# Altium schematic symbol library Microcontrollers.SchLib: 4 symbols
Pins are listed as number, name and electrical type; pins without a type are passive.

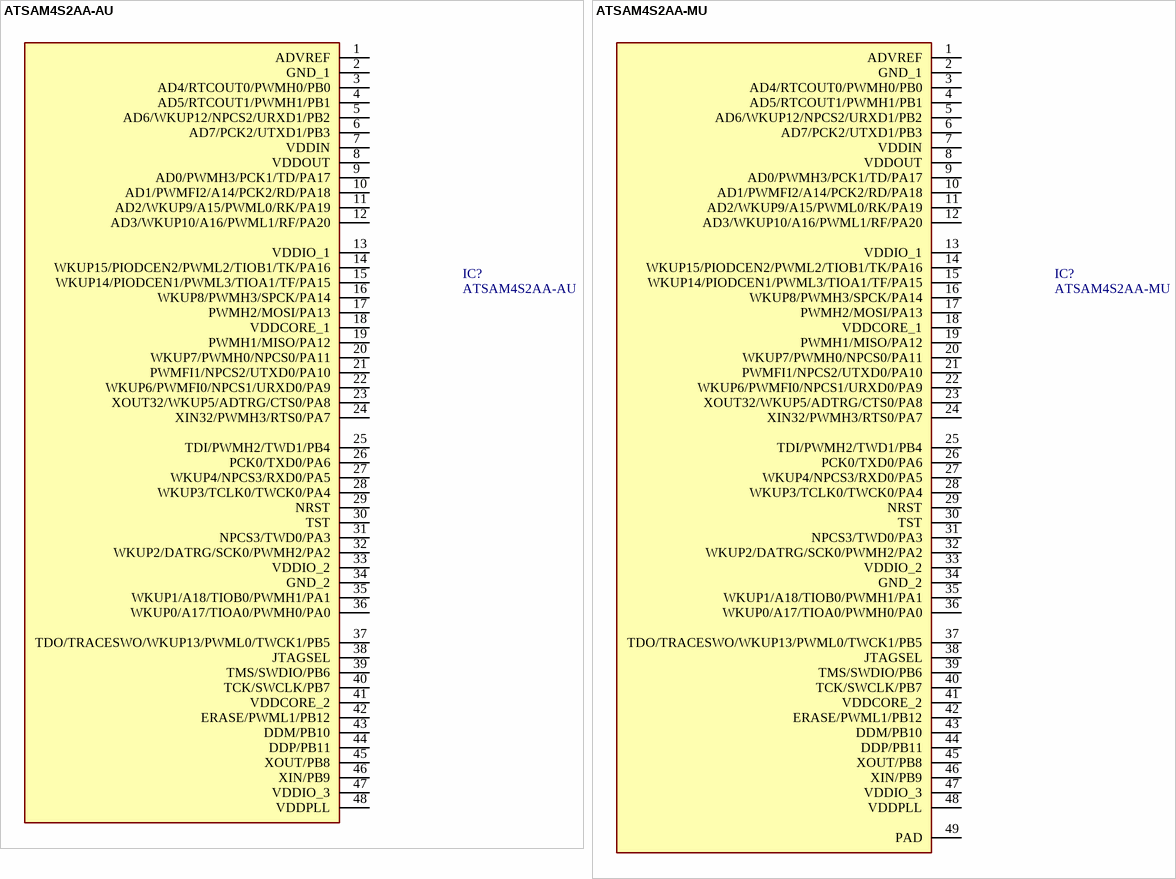
[diagram p0: symbols ATSAM4S2AA-AU to ATSAM4S2AA-MU]

## ATSAM4S2AA-AU
designator IC?
MCU 32-Bit SAM4S ARM Cortex M4 RISC 128KB Flash 1.2V/3.3V 48-Pin QFN; Manufacturer_Name: Microchip; Datasheet Link: http://www.atmel.com/Images/Atmel-11100-32-bit%20Cortex-M4-Microcontroller-SAM4S_Datasheet.pdf; Height: 1.6mm; Manufacturer_Part_Number: ATSAM4S2AA-AU; Arrow Part Number: ATSAM4S2AA-AU; Arrow Price/Stock: https://www.arrow.com/en/products/atsam4s2aa-au/microchip-technology; Mouser Part Number: 556-ATSAM4S2AA-AU; Mouser Price/Stock: https://www.mouser.co.uk/ProductDetail/Microchip-Technology-Atmel/ATSAM4S2AA-AU?qs=HVbQlW5zcXVDYXWYpGOOEg%3D%3D
footprint TSQFP50P900X900X160-48M (TSQFP, 48-Leads, Body 7.00x7.00mm, Pitch 0.50mm, IPC Low Density)
pins: 1 ADVREF, 2 GND_1, 3 AD4/RTCOUT0/PWMH0/PB0, 4 AD5/RTCOUT1/PWMH1/PB1, 5 AD6/WKUP12/NPCS2/URXD1/PB2, 6 AD7/PCK2/UTXD1/PB3, 7 VDDIN, 8 VDDOUT, 9 AD0/PWMH3/PCK1/TD/PA17, 10 AD1/PWMFI2/A14/PCK2/RD/PA18, 11 AD2/WKUP9/A15/PWML0/RK/PA19, 12 AD3/WKUP10/A16/PWML1/RF/PA20, 13 VDDIO_1, 14 WKUP15/PIODCEN2/PWML2/TIOB1/TK/PA16, 15 WKUP14/PIODCEN1/PWML3/TIOA1/TF/PA15, 16 WKUP8/PWMH3/SPCK/PA14, 17 PWMH2/MOSI/PA13, 18 VDDCORE_1, 19 PWMH1/MISO/PA12, 20 WKUP7/PWMH0/NPCS0/PA11, 21 PWMFI1/NPCS2/UTXD0/PA10, 22 WKUP6/PWMFI0/NPCS1/URXD0/PA9, 23 XOUT32/WKUP5/ADTRG/CTS0/PA8, 24 XIN32/PWMH3/RTS0/PA7, 25 TDI/PWMH2/TWD1/PB4, 26 PCK0/TXD0/PA6, 27 WKUP4/NPCS3/RXD0/PA5, 28 WKUP3/TCLK0/TWCK0/PA4, 29 NRST, 30 TST, 31 NPCS3/TWD0/PA3, 32 WKUP2/DATRG/SCK0/PWMH2/PA2, 33 VDDIO_2, 34 GND_2, 35 WKUP1/A18/TIOB0/PWMH1/PA1, 36 WKUP0/A17/TIOA0/PWMH0/PA0, 37 TDO/TRACESWO/WKUP13/PWML0/TWCK1/PB5, 38 JTAGSEL, 39 TMS/SWDIO/PB6, 40 TCK/SWCLK/PB7, 41 VDDCORE_2, 42 ERASE/PWML1/PB12, 43 DDM/PB10, 44 DDP/PB11, 45 XOUT/PB8, 46 XIN/PB9, 47 VDDIO_3, 48 VDDPLL

## ATSAM4S2AA-MU
designator IC?
MCU 32-Bit SAM4S ARM Cortex M4 RISC 128KB Flash 1.2V/3.3V 48-Pin QFN; Manufacturer_Name: Microchip; Manufacturer_Part_Number: ATSAM4S2AA-AU; Datasheet Link: http://www.atmel.com/Images/Atmel-11100-32-bit%20Cortex-M4-Microcontroller-SAM4S_Datasheet.pdf; Height: 1.6mm; Arrow Part Number: ATSAM4S2AA-AU; Arrow Price/Stock: https://www.arrow.com/en/products/atsam4s2aa-au/microchip-technology; Mouser Part Number: 556-ATSAM4S2AA-AU; Mouser Price/Stock: https://www.mouser.co.uk/ProductDetail/Microchip-Technology-Atmel/ATSAM4S2AA-AU?qs=HVbQlW5zcXVDYXWYpGOOEg%3D%3D
footprint Atmel_QFN48_L (QFN, 48-Leads, Body 7x7mm, Pitch 0.5mm, Thermal Pad 5.8x5.8mm, IPC High Density)
footprint Atmel_QFN48_M (QFN, 48-Leads, Body 7x7mm, Pitch 0.5mm, Thermal Pad 5.8x5.8mm, IPC Low Density)
footprint Atmel_QFN48_N (QFN, 48-Leads, Body 7x7mm, Pitch 0.5mm, Thermal Pad 5.8x5.8mm, IPC Medium Density)
pins: 1 ADVREF, 2 GND_1, 3 AD4/RTCOUT0/PWMH0/PB0, 4 AD5/RTCOUT1/PWMH1/PB1, 5 AD6/WKUP12/NPCS2/URXD1/PB2, 6 AD7/PCK2/UTXD1/PB3, 7 VDDIN, 8 VDDOUT, 9 AD0/PWMH3/PCK1/TD/PA17, 10 AD1/PWMFI2/A14/PCK2/RD/PA18, 11 AD2/WKUP9/A15/PWML0/RK/PA19, 12 AD3/WKUP10/A16/PWML1/RF/PA20, 13 VDDIO_1, 14 WKUP15/PIODCEN2/PWML2/TIOB1/TK/PA16, 15 WKUP14/PIODCEN1/PWML3/TIOA1/TF/PA15, 16 WKUP8/PWMH3/SPCK/PA14, 17 PWMH2/MOSI/PA13, 18 VDDCORE_1, 19 PWMH1/MISO/PA12, 20 WKUP7/PWMH0/NPCS0/PA11, 21 PWMFI1/NPCS2/UTXD0/PA10, 22 WKUP6/PWMFI0/NPCS1/URXD0/PA9, 23 XOUT32/WKUP5/ADTRG/CTS0/PA8, 24 XIN32/PWMH3/RTS0/PA7, 25 TDI/PWMH2/TWD1/PB4, 26 PCK0/TXD0/PA6, 27 WKUP4/NPCS3/RXD0/PA5, 28 WKUP3/TCLK0/TWCK0/PA4, 29 NRST, 30 TST, 31 NPCS3/TWD0/PA3, 32 WKUP2/DATRG/SCK0/PWMH2/PA2, 33 VDDIO_2, 34 GND_2, 35 WKUP1/A18/TIOB0/PWMH1/PA1, 36 WKUP0/A17/TIOA0/PWMH0/PA0, 37 TDO/TRACESWO/WKUP13/PWML0/TWCK1/PB5, 38 JTAGSEL, 39 TMS/SWDIO/PB6, 40 TCK/SWCLK/PB7, 41 VDDCORE_2, 42 ERASE/PWML1/PB12, 43 DDM/PB10, 44 DDP/PB11, 45 XOUT/PB8, 46 XIN/PB9, 47 VDDIO_3, 48 VDDPLL, 49 PAD "Connect to GND"

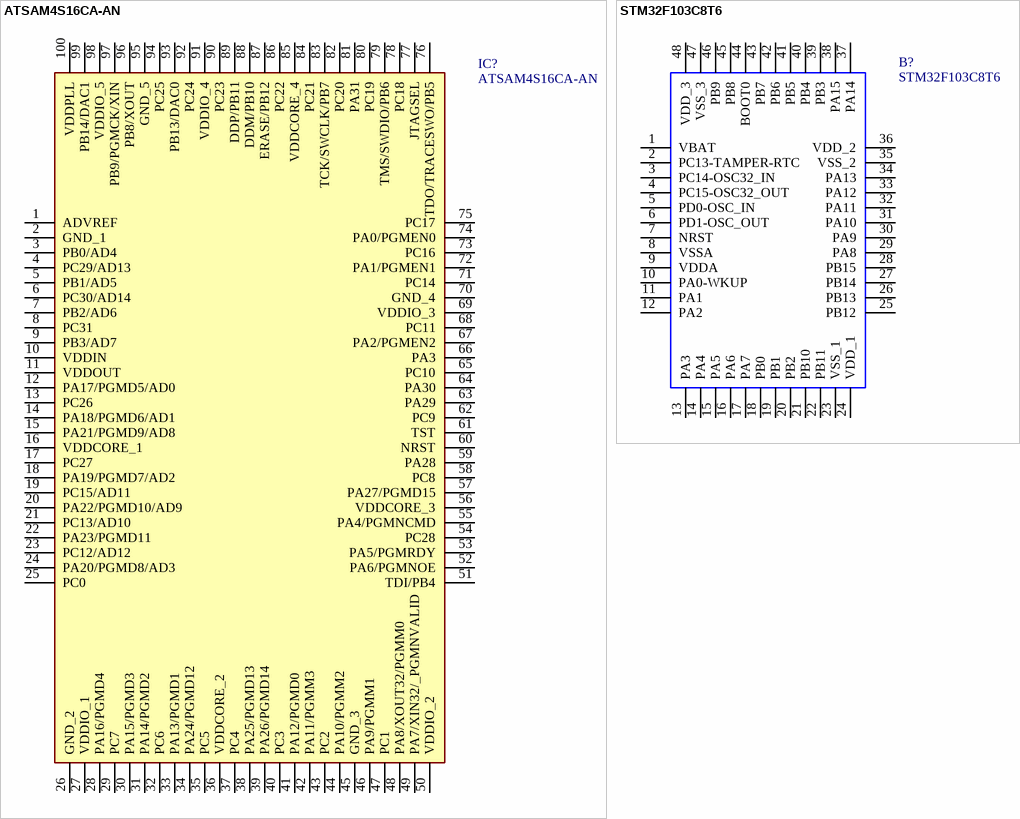
[diagram p1: symbols ATSAM4S16CA-AN to STM32F103C8T6]

## ATSAM4S16CA-AN
designator IC?
Integrated Circuit; Manufacturer_Name: Microchip; Datasheet Link: https://www.mouser.com/datasheet/2/268/Atmel-11100-32-bit Cortex-M4-Microcontroller-SAM4S-1146601.pdf; Height: 1.6mm; Manufacturer_Part_Number: ATSAM4S16CA-AN; Arrow Part Number: ATSAM4S16CA-AN; Arrow Price/Stock: https://www.arrow.com/en/products/atsam4s16ca-an/microchip-technology; Mouser Part Number: 556-ATSAM4S16CA-AN; Mouser Price/Stock: https://www.mouser.com/Search/Refine.aspx?Keyword=556-ATSAM4S16CA-AN
footprint Atmel_LQFP100_L (Thin QFP, 100-Leads, Body 14x14mm, Pitch 0.5mm, IPC High Density)
footprint Atmel_LQFP100_M (Thin QFP, 100-Leads, Body 14x14mm, Pitch 0.5mm, IPC Low Density)
footprint Atmel_LQFP100_N (Thin QFP, 100-Leads, Body 14x14mm, Pitch 0.5mm, IPC Medium Density)
pins: 1 ADVREF, 2 GND_1, 3 PB0/AD4, 4 PC29/AD13, 5 PB1/AD5, 6 PC30/AD14, 7 PB2/AD6, 8 PC31, 9 PB3/AD7, 10 VDDIN, 11 VDDOUT, 12 PA17/PGMD5/AD0, 13 PC26, 14 PA18/PGMD6/AD1, 15 PA21/PGMD9/AD8, 16 VDDCORE_1, 17 PC27, 18 PA19/PGMD7/AD2, 19 PC15/AD11, 20 PA22/PGMD10/AD9, 21 PC13/AD10, 22 PA23/PGMD11, 23 PC12/AD12, 24 PA20/PGMD8/AD3, 25 PC0, 26 GND_2, 27 VDDIO_1, 28 PA16/PGMD4, 29 PC7, 30 PA15/PGMD3, 31 PA14/PGMD2, 32 PC6, 33 PA13/PGMD1, 34 PA24/PGMD12, 35 PC5, 36 VDDCORE_2, 37 PC4, 38 PA25/PGMD13, 39 PA26/PGMD14, 40 PC3, 41 PA12/PGMD0, 42 PA11/PGMM3, 43 PC2, 44 PA10/PGMM2, 45 GND_3, 46 PA9/PGMM1, 47 PC1, 48 PA8/XOUT32/PGMM0, 49 PA7/XIN32/_PGMNVALID, 50 VDDIO_2, 51 TDI/PB4, 52 PA6/PGMNOE, 53 PA5/PGMRDY, 54 PC28, 55 PA4/PGMNCMD, 56 VDDCORE_3, 57 PA27/PGMD15, 58 PC8, 59 PA28, 60 NRST, 61 TST, 62 PC9, 63 PA29, 64 PA30, 65 PC10, 66 PA3, 67 PA2/PGMEN2, 68 PC11, 69 VDDIO_3, 70 GND_4, 71 PC14, 72 PA1/PGMEN1, 73 PC16, 74 PA0/PGMEN0, 75 PC17, 76 TDO/TRACESWO/PB5, 77 JTAGSEL, 78 PC18, 79 TMS/SWDIO/PB6, 80 PC19, 81 PA31, 82 PC20, 83 TCK/SWCLK/PB7, 84 PC21, 85 VDDCORE_4, 86 PC22, 87 ERASE/PB12, 88 DDM/PB10, 89 DDP/PB11, 90 PC23, 91 VDDIO_4, 92 PC24, 93 PB13/DAC0, 94 PC25, 95 GND_5, 96 PB8/XOUT, 97 PB9/PGMCK/XIN, 98 VDDIO_5, 99 PB14/DAC1, 100 VDDPLL

## STM32F103C8T6
designator B?
STM32F103C8T6, 32 bit ARM Cortex M3 Microcontroller 72MHz 64kb Flash, 20kb RAM, USB I2C SPI 48-Pin LQFP; Manufacturer_Name: STMicroelectronics; Allied_Number: 70390993; Geometry.Height: 1.6mm; Manufacturer_Part_Number: STM32F103C8T6; RS Part Number: 0402279P; RS Price/Stock: http://uk.rs-online.com/web/p/products/0402279P; Allied Price/Stock: http://www.alliedelec.com/stmicroelectronics-stm32f103c8t6/70390993/; Mouser Part Number: 511-STM32F103C8T6; Mouser Price/Stock: https://www.mouser.com/Search/Refine.aspx?Keyword=511-STM32F103C8T6; Datasheet Link: http://www.st.com/st-web-ui/static/active/en/resource/technical/document/datasheet/CD00161566.pdf
footprint QFP50P900X900X160-48N
pins: 1 VBAT, 2 PC13-TAMPER-RTC, 3 PC14-OSC32_IN, 4 PC15-OSC32_OUT, 5 PD0-OSC_IN, 6 PD1-OSC_OUT, 7 NRST, 8 VSSA, 9 VDDA (power), 10 PA0-WKUP, 11 PA1, 12 PA2, 13 PA3, 14 PA4, 15 PA5, 16 PA6, 17 PA7, 18 PB0, 19 PB1, 20 PB2, 21 PB10, 22 PB11, 23 VSS_1, 24 VDD_1 (power), 25 PB12, 26 PB13, 27 PB14, 28 PB15, 29 PA8, 30 PA9, 31 PA10, 32 PA11, 33 PA12, 34 PA13, 35 VSS_2, 36 VDD_2 (power), 37 PA14, 38 PA15, 39 PB3, 40 PB4, 41 PB5, 42 PB6, 43 PB7, 44 BOOT0, 45 PB8, 46 PB9, 47 VSS_3, 48 VDD_3 (power)